# Altium footprint library PcbLib1.PcbLib: 9 footprints
Each footprint in its own frame and in the unit in brackets; x right, y up, seen from the top. Pads: shape width x height; smd on the part's side, far side on the other; paste and mask are expansions set on the pad; w line width, h text height; cw(c..) or ccw(c..) is an arc to the next point about the centre after c.
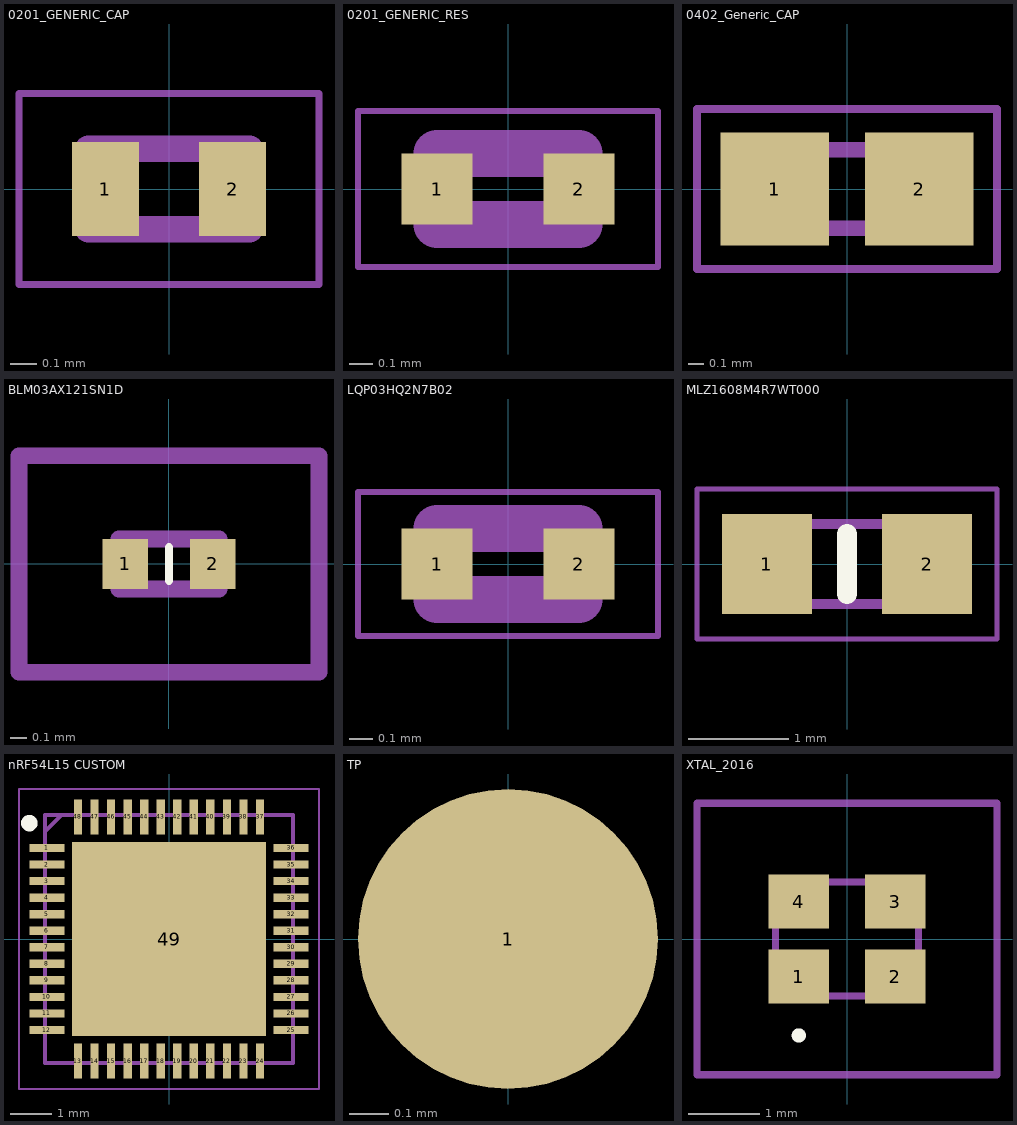
[diagram p0: the footprints below, top view; thin cyan lines are the x and y axes]

## 0201_GENERIC_CAP [mm]
pads (2):
  rect 0.25x0.35 smd: 1(-0.237,0) 2(0.237,0)
Mechanical 13:
  lines w0.1: -0.3,-0.15 -0.3,0.15 0.3,0.15 0.3,-0.15 -0.3,-0.15
Mechanical 15:
  lines w0.025: -0.559,-0.356 -0.559,0.356 0.559,0.356 0.559,-0.356 -0.559,-0.356
3D body "GRM035R61C225ME01D.stp": height 0.3, standoff 0, extent -0.3,-0.15 0.3,0.15

## 0201_GENERIC_RES [mm]
pads (2):
  rect 0.3x0.3 smd: 1(-0.3,0) 2(0.3,0)
Mechanical 13:
  lines w0.2: -0.3,-0.15 0.3,-0.15 0.3,0.15 -0.3,0.15 -0.3,-0.15
Mechanical 15:
  lines w0.025: -0.635,-0.33 0.635,-0.33 0.635,0.33 -0.635,0.33 -0.635,-0.33
3D body "ERA-1AEB101C.stp": height 0.23, standoff 0, extent -0.3,-0.15 0.3,0.15

## 0402_Generic_CAP [mm]
pads (2):
  rect 0.69x0.72 smd: 1(-0.46,0) 2(0.46,0)
Mechanical 13:
  lines w0.1: -0.5,-0.25 -0.5,0.25 0.5,0.25 0.5,-0.25 -0.5,-0.25
Mechanical 15:
  lines w0.05: -0.955,-0.51 -0.955,0.51 0.955,0.51 0.955,-0.51 -0.955,-0.51
3D body "CL05A106MQ5NUNC.stp": height 0.7, standoff 0, extent -0.5,-0.25 0.5,0.25

## BLM03AX121SN1D [mm]
pads (2):
  rect 0.275x0.3 smd: 1(-0.263,0) 2(0.263,0)
Top Overlay:
  lines w0.05: 0,-0.1 0,0.1
Mechanical 13:
  lines w0.1: -0.3,-0.15 -0.3,0.15 0.3,0.15 0.3,-0.15 -0.3,-0.15
Mechanical 15:
  lines w0.1: -0.9,-0.65 -0.9,0.65 0.9,0.65 0.9,-0.65 -0.9,-0.65
3D body "BLM03AX121SN1D.stp": height 0.3, standoff 0, extent -0.3,-0.15 0.3,0.15

## LQP03HQ2N7B02 [mm]
pads (2):
  rect 0.3x0.3 smd: 1(-0.3,0) 2(0.3,0)
Mechanical 13:
  lines w0.2: -0.3,-0.15 -0.3,0.15 0.3,0.15 0.3,-0.15 -0.3,-0.15
Mechanical 15:
  lines w0.025: -0.635,-0.305 -0.635,0.305 0.635,0.305 0.635,-0.305 -0.635,-0.305
3D body "LQP03HQ2N7B02B.stp": height 0.42, standoff 0, extent -0.3,-0.15 0.3,0.15

## MLZ1608M4R7WT000 [mm]
pads (2):
  rect 0.9x1 smd: 1(-0.8,0) 2(0.8,0)
Top Overlay:
  lines w0.2: 0,-0.3 0,0.3
Mechanical 13:
  lines w0.1: -0.8,-0.4 -0.8,0.4 0.8,0.4 0.8,-0.4 -0.8,-0.4
Mechanical 15:
  lines w0.05: -1.5,-0.75 -1.5,0.75 1.5,0.75 1.5,-0.75 -1.5,-0.75
3D body "MLZ1608M4R7WT000.stp": height 0.95, standoff 0, extent -0.8,-0.4 0.8,0.4

## nRF54L15 CUSTOM [mm]
pads (49):
  rect 0.85x0.2 smd: 1(-2.95,2.2) 2(-2.95,1.8) 3(-2.95,1.4) 4(-2.95,1) 5(-2.95,0.6) 6(-2.95,0.2) 7(-2.95,-0.2) 8(-2.95,-0.6) 9(-2.95,-1) 10(-2.95,-1.4) 11(-2.95,-1.8) 12(-2.95,-2.2) 25(2.95,-2.2) 26(2.95,-1.8) 27(2.95,-1.4) 28(2.95,-1) 29(2.95,-0.6) 30(2.95,-0.2) 31(2.95,0.2) 32(2.95,0.6) 33(2.95,1) 34(2.95,1.4) 35(2.95,1.8) 36(2.95,2.2)
  rect 0.2x0.85 smd: 13(-2.2,-2.95) 14(-1.8,-2.95) 15(-1.4,-2.95) 16(-1,-2.95) 17(-0.6,-2.95) 18(-0.2,-2.95) 19(0.2,-2.95) 20(0.6,-2.95) 21(1,-2.95) 22(1.4,-2.95) 23(1.8,-2.95) 24(2.2,-2.95) 37(2.2,2.95) 38(1.8,2.95) 39(1.4,2.95) 40(1,2.95) 41(0.6,2.95) 42(0.2,2.95) 43(-0.2,2.95) 44(-0.6,2.95) 45(-1,2.95) 46(-1.4,2.95) 47(-1.8,2.95) 48(-2.2,2.95)
  rect 4.7x4.7 smd: 49(0,0)
Top Overlay:
  circle w0.2: c-3.375,2.8 r0.1
Mechanical 13:
  lines w0.1: -3,2.6 -2.6,3 ; -3,-3 3,-3 3,3 -3,3 -3,-3
Mechanical 15:
  lines w0.05: -3.625,-3.625 3.625,-3.625 3.625,3.625 -3.625,3.625 -3.625,-3.625
3D body "NRF54L15-QFAA-R.stp": height 0.95, standoff 0, extent -3.05,-3.05 3.05,3.05

## TP [mil]
pads (1):
  round 30 smd mask+4: 1(0,0)

## XTAL_2016 [mm]
pads (4):
  rect 0.85x0.75 smd: 1(-0.675,-0.525) 2(0.675,-0.525) 3(0.675,0.525) 4(-0.675,0.525)
Top Overlay:
  lines w0.1: -0.675,-1.4 ccw(c-0.675,-1.35) -0.675,-1.3 ccw(c-0.675,-1.35) -0.675,-1.4
Mechanical 13:
  lines w0.1: -1,-0.8 1,-0.8 1,0.8 -1,0.8 -1,-0.8
Mechanical 15:
  lines w0.1: -2.1,-1.9 2.1,-1.9 2.1,1.9 -2.1,1.9 -2.1,-1.9
3D body "ECS-320-8-37B2-CTN-TR.stp": height 0.6, standoff 0, extent -1.025,-0.825 1.025,0.825